# Altium schematic symbol library TPSM53603RDAR.Schlib: 1 symbol
Pins are listed as number, name and electrical type; pins without a type are passive.

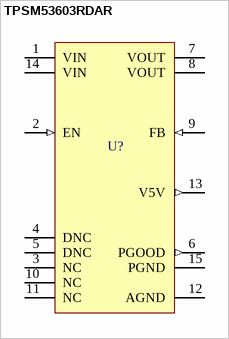
[diagram p0: symbol TPSM53603RDAR]

## TPSM53603RDAR
designator U?
Non-Isolated PoL Module DC DC Converter 1 Output 1 ~ 7V 3A 3.8V - 36V Input
pins: 1 VIN (power), 2 EN (in), 3 NC, 4 DNC, 5 DNC, 6 PGOOD (out), 7 VOUT (power), 8 VOUT (power), 9 FB (in), 10 NC, 11 NC, 12 AGND (power), 13 V5V (out), 14 VIN (power), 15 PGND (power)